# EAGLE library part UB-M5BR-G14 (library con-usb)
mini-B Receptacle, JST
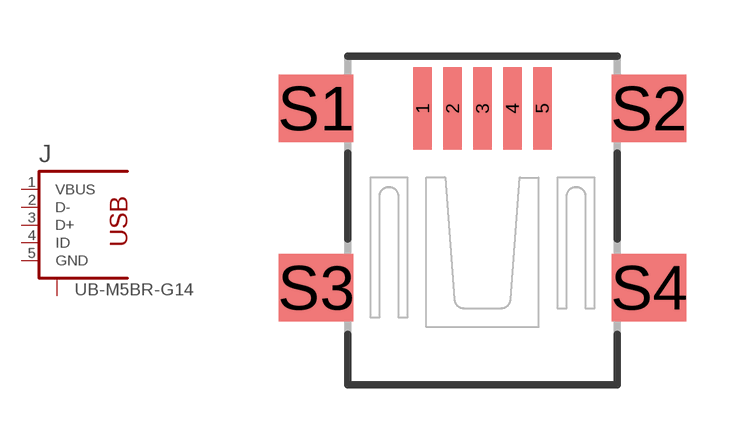
[diagram p9: symbol with the pads of UB-M5BR-G14; footprint UB-M5BR-G14]

Designator prefix J

## UB-M5BR-G14  [UB-M5BR-G14]
1  VBUS  pas
2  D-  pas
3  D+  pas
4  ID  pas
5  GND  pas
S1  S1  pas
S2  S2  pas
S3  S3  pas
S4  S4  pas

## Footprint UB-M5BR-G14 (pad centres in mm)
JST - UB series mini-B Type SMT mount
smd 0.5 x 2.2: 1 -1.6,0; 2 -0.8,0; 3 0,0; 4 0.8,0; 5 1.6,0
smd 2 x 1.8: S1 -4.45,0; S2 4.45,0; S3 -4.45,-4.8; S4 4.45,-4.8